# Altium footprint library BM04B-SRSS-TB.PcbLib: 1 footprints
Each footprint in its own frame and in the unit in brackets; x right, y up, seen from the top. Pads: shape width x height; smd on the part's side, far side on the other; paste and mask are expansions set on the pad; w line width, h text height; cw(c..) or ccw(c..) is an arc to the next point about the centre after c.
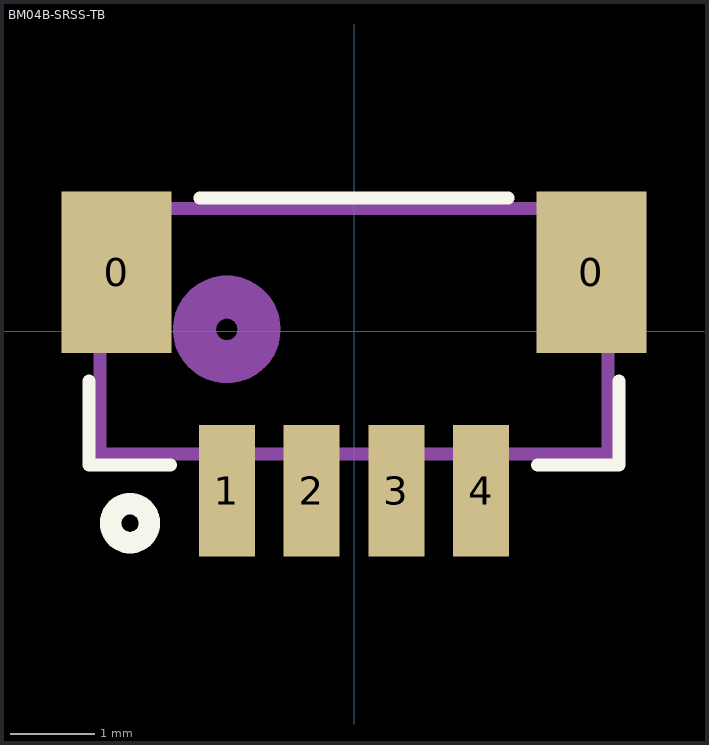
[diagram p0: the footprint, top view; thin cyan lines are the x and y axes]

## BM04B-SRSS-TB [mil]
pads (6):
  rect 51x75 smd: 0(-110.24,27.47) 0(110.24,27.47)
  rect 26x61 smd: 1(-59.06,-74.1) 2(-19.68,-74.1) 3(19.68,-74.1) 4(59.06,-74.1)
Top Overlay:
  lines w6: -123,-23.13 -123,-62 -85.15,-62 ; -71.64,62 71.64,62 ; 85.15,-62 123,-62 123,-23.13
  lines w10: -113,-89.1 cw(c-104,-89.1) -95,-89.1 cw(c-104,-89.1) -113,-89.1
Assembly Top:
  lines w6: -118,-57 -118,57 118,57 118,-57 -118,-57
  lines w20: -74.06,0.9 cw(c-59.06,0.9) -44.06,0.9 cw(c-59.06,0.9) -74.06,0.9
3D body "step_temp.STEP": height 171.26, standoff 0, extent -118.11,-84.65 118.11,57.09